# Altium schematic symbol library LSMD PCB.SCHLIB: 112 symbols (part 1 of 2)
Pins are listed as number, name and electrical type; pins without a type are passive.

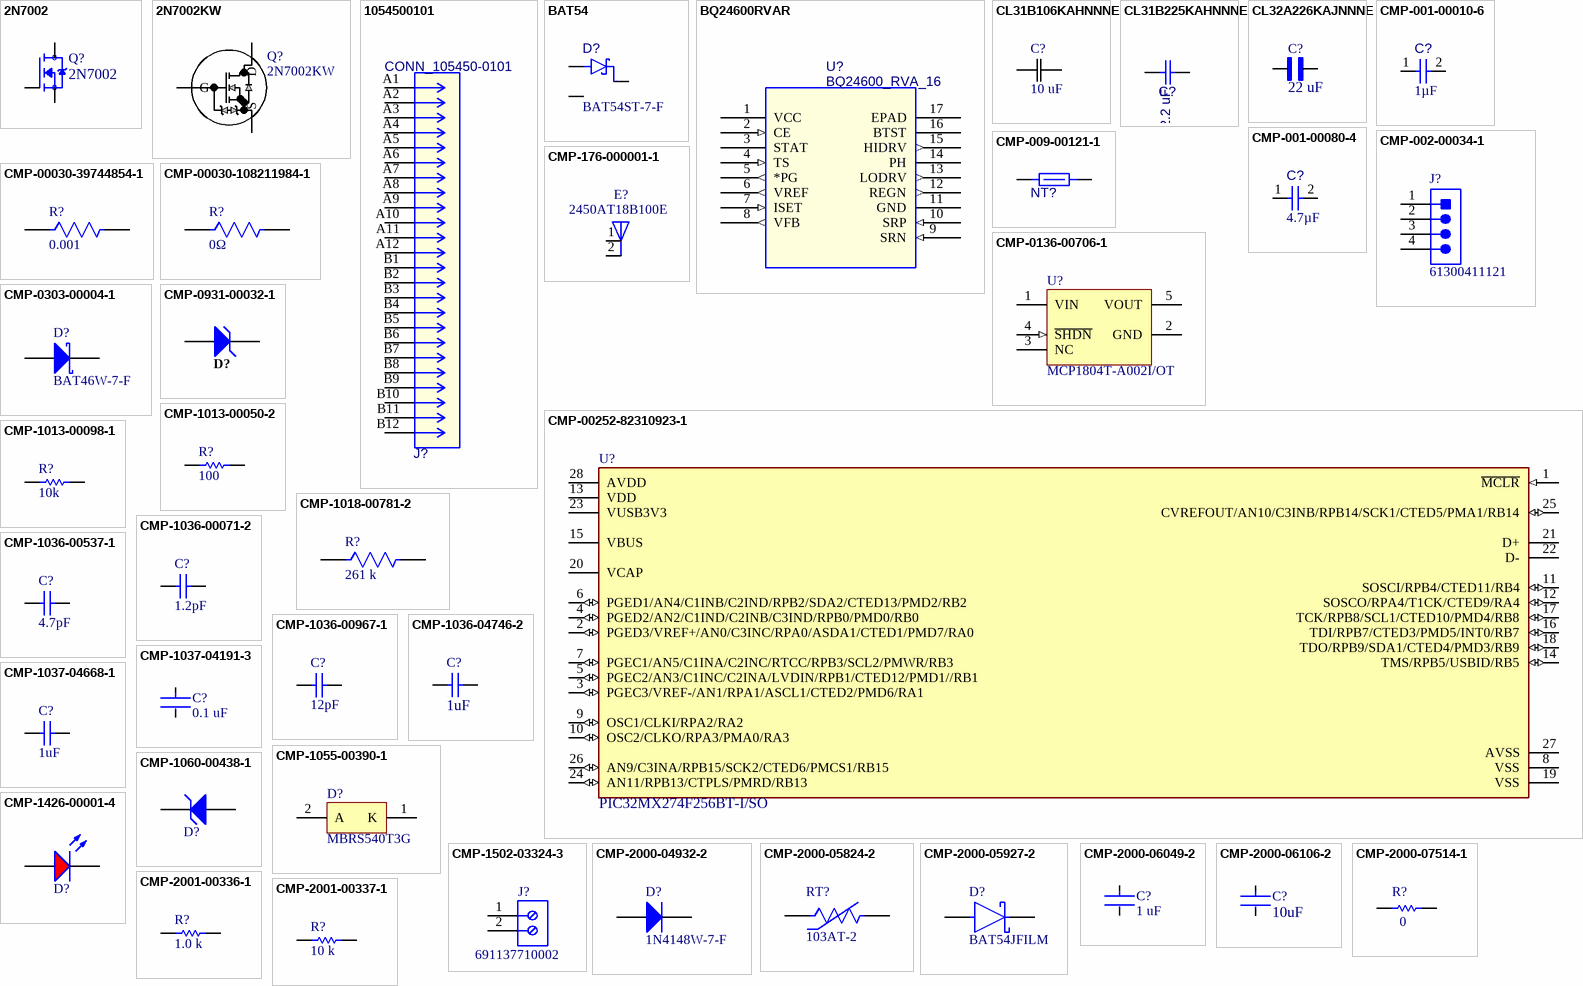
[diagram p0: symbols 2N7002 to CMP-2001-00337-1]

## 2N7002
designator Q?
Mosfet Array 2 N-Channel (Dual) 60V 300mA 500mW Surface Mount PG-SOT363-6; MF: onsemi; SnapEDA_Link: https://www.snapeda.com/parts/2N7002/Onsemi/view-part/?ref=snap; Package: SOT-23-3 ON Semiconductor; Value: *; MP: 2N7002; Check_prices: https://www.snapeda.com/parts/2N7002/Onsemi/view-part/?ref=eda; Supplier 1: Avnet; Supplier Part Number 1: 2N7002
footprint SOT95P240X111-3N
pins: 1 G, 2 S, 3 D

## 2N7002KW
designator Q?
Description; Manufacturer_Name: onsemi; Copyright: Copyright (C) 2025 Ultra Librarian. All rights reserved.; Manufacturer_Part_Number: 2N7002KW; Supplier 1: Avnet; Supplier Part Number 1: 2N7002KW
footprint SC-70_419AB-01_OSI
pins: 1 G, 2 S, 3 D

## 1054500101
designator J?, comment CONN_105450-0101
Universal Serial Bus (USB) Shielded I/O Receptacle, Type C, Right-Angle, Top Mount, Surface Mount, 0.80mm Solder Tabs, Gold (Au) Flash over 0.76m Palladium Nickel Plating; Manufacturer_Name: Molex Connector Corporation; Manufacturer_Part_Number: 1054500101; Part Reference: J3; PCB Footprint: CONN_105450-0101_MOL; Copyright: Copyright (C) 2025 Ultra Librarian. All rights reserved.; Datasheet: https://www.molex.com/en-us/products/part-detail-pdf/1054500101?display=pdf; Value: CONN_105450-0101; Part Number: 1054500101; Manufacturer Part Number: 1054500101; Manufacturer Name: Molex Connector Corporation; Supplier 1: Avnet; Supplier Part Number 1: 1054500101
footprint CONN_1054500101_MOL
pins: A1, A2, A3, A4, A5, A6, A7, A8, A9, A10, A11, A12, B1, B2, B3, B4, B5, B6, B7, B8, B9, B10, B11, B12

## BAT54
designator D?  Supplier Part Number 1: BAT54ST-7-F
Schottky, SOT-23, 30V, 0.2A, 150C; Part Reference: D1; PCB Footprint: SOT95P240X120-3N; MF: Diotec; MP: BAT54; OriginalSymbolOrigin: (-10000,20000); Value: BAT54; SnapEDA_Link: https://www.snapeda.com/parts/BAT54/Diotec/view-part/?ref=snap; Package: SOT-23 Diotec; Check_prices: https://www.snapeda.com/parts/BAT54/Diotec/view-part/?ref=eda; Part Number: BAT54; Manufacturer Part Number: BAT54; Manufacturer Name: Diotec; Supplier 1: Avnet
footprint SOT523_DIO
pins: 1, 2 NC, 3

## BQ24600RVAR
designator U?, comment BQ24600_RVA_16
Standalone 1-6 cell Buck battery charge controller 16-VQFN -40 to 85; Manufacturer_Part_Number: BQ24600RVAR; Manufacturer_Name: Texas Instruments; Part Reference: U3; PCB Footprint: RVA16_2P14X2P14; Datasheet: https://www.ti.com/lit/gpn/bq24600; Copyright: Copyright (C) 2025 Ultra Librarian. All rights reserved.; Value: BQ24600_RVA_16; Manufacturer Name: Texas Instruments; Manufacturer Part Number: BQ24600RVAR; Part Number: BQ24600RVAR; Supplier 1: DigiKey; Supplier Part Number 1: 296-47740-1-ND
footprint RVA16_2P14X2P14
pins: 1 VCC (power), 2 CE (in), 3 STAT, 4 TS (in), 5 *PG (out), 6 VREF (out), 7 ISET (in), 8 VFB (out), 9 SRN (in), 10 SRP (in), 11 GND (power), 12 REGN (out), 13 LODRV (out), 14 PH, 15 HIDRV (out), 16 BTST, 17 EPAD (power)

## CL31B106KAHNNNE
designator C?, comment 10 uF
Description; Manufacturer_Name: Samsung; Manufacturer_Part_Number: CL31B106KAHNNNE; Copyright: Copyright (C) 2025 Ultra Librarian. All rights reserved.; Supplier 1: Avnet; Supplier Part Number 1: CL31B106KAHNNNE
footprint CAP_CL31_SAM
pins: 1, 2

## CL31B225KAHNNNE
designator C?, comment 2.2 uF
Manufacturer_Name: Samsung; Manufacturer_Part_Number: CL31B225KAHNNNE; Part Reference: C6; PCB Footprint: CAP_CL31_SAM; Copyright: Copyright (C) 2025 Ultra Librarian. All rights reserved.; Value: 2.2 uF; Part Number: CL31B225KAHNNNE; Manufacturer Part Number: CL31B225KAHNNNE; Manufacturer Name: Samsung; Supplier 1: Avnet; Supplier Part Number 1: CL31B225KAHNNNE
footprint CAP_CL31_SAM
footprint CAPC3216X180N
pins: 1, 2

## CL32A226KAJNNNE
designator C?, comment 22 uF
Capacitor: ceramic; MLCC; 22uF; 25V; X5R; Â±10%; SMD; 1210; -55Ã·85Â°C; MF: Samsung Electro-Mechanics; MP: CL32A226KAJNNNE; SnapEDA_Link: https://www.snapeda.com/parts/CL32A226KAJNNNE/Samsung/view-part/?ref=snap; Package: SMD-2 Samsung; Value: *; Check_prices: https://www.snapeda.com/parts/CL32A226KAJNNNE/Samsung/view-part/?ref=eda; Supplier 1: Avnet; Supplier Part Number 1: CL32A226KAJNNNE
footprint CAP_CL32_SAM
pins: 1, 2

## CMP-001-00010-6
designator C?, comment value 1µF  (hidden comment: Capacitor 1 uF +/- 10% 25 V 0805)
Chip Capacitor, 1 uF, +/-10%, 25 V, 0805 (2012 Metric); Manufacturer: Yageo Group; Manufacturer Part Number: CC0805KKX7R8BB105; Manufacturer: Kyocera / AVX; Manufacturer Part Number: 08053C105KAZ2A; Manufacturer: Murata; Manufacturer Part Number: GRM21BR71E105KA99L; Voltage Rating: 25V; Capacitor Type: Ceramic; Tolerance: 10%; Pins: 2; Max Operating Temperature: 125°C; Min Operating Temperature: -55°C; Mounting Technology: SM; RoHS Compliant: True; Case/Package: 0805; Component Type: Capacitors
footprint CAPC2013X145X50ML20T25 (Chip Capacitor, 2-Leads, Body 2.2x1.45mm, IPC Low Density)
footprint CAPC2013X145X50LL20T25 (Chip Capacitor, 2-Leads, Body 2.2x1.45mm, IPC High Density)
footprint CAPC2013X145X50NL20T25 (Chip Capacitor, 2-Leads, Body 2.2x1.45mm, IPC Medium Density)
pins: 1, 2

## CMP-001-00080-4
designator C?, comment value 4.7µF  (hidden comment: Capacitor 4.7µF +/-40% 25V 0805)
Chip Capacitor, 4.7µF +/-40%, 25V, 0805, Thickness 1.45 mm; Manufacturer: KYOCERA AVX; Manufacturer Part Number: 08053D475MAT2A; Manufacturer: KEMET; Manufacturer Part Number: C0805C475M3PAC; Manufacturer Part Number: 08053C475KAT2A; Tolerance: 20%; Mounting Technology: SMT; Max Operating Temperature: 85°C; Min Operating Temperature: -55°C; Voltage Rating: 25V; Case/Package: 0805; Pins: 2; Component Type: Capacitors
footprint CAPC0805(2012)145_L (Chip Capacitor, Body 2.0x1.2mm, Height 1.45mm, IPC High Density)
pins: 1, 2

## CMP-002-00034-1
designator J?, comment 61300411121
Male Header, Pitch 2.5 mm, 1 x 4 Position, Height 6.1 mm, Tail Length 3.4 mm, -25 to 85 degC, RoHS, Bulk; Manufacturer: JST; Manufacturer Part Number: S4B-XH-A(LF)(SN); RoHS Compliant: Unknown; Manufacturer URL: http://www.jst.com/home2.html; Connector Type: Header; Datasheet URL: http://www.jst-mfg.com/product/pdf/eng/eXH.pdf; Gender: Male; Package Reference: S4B-XH-A(LF)(SN); Datasheet Version: May-16; Case/Package: S4B-XH-A(LF)(SN); Mounting Technology: TH; Max Operating Temperature: 85°C; Min Operating Temperature: -25°C; Package Description: XH Series Disconnectable Crimp Style Connector, Pitch 2.5 mm, 1 x 4 Position, Height 6.1 mm, Tail Length 3.4 mm; Component Type: Connectors
footprint JST-S4B-XH-A(LF)(SN)_V (Header, 4-Leads, Body 12.4x11.5mm, Pitch 2.5mm)
pins: 1, 2, 3, 4

## CMP-009-00121-1
designator NT?, comment Net Tie 12x8mil  (value not drawn)  (net tie, no BOM)
Max Operating Temperature: 155°C; Min Operating Temperature: -55°C; Pins: 2; Component Type: Resistors
footprint SHORT06-FP
pins: 1, 2

## CMP-00030-39744854-1
designator R?, comment 0.001
WSL20101L000FEA18 Res Metal Strip 2010 0.001 Ohm 1% 1W ±275ppm/C Sulfur Resistant Pad SMD Automotive T/R; NexarPartId: 39744854; Resistance: 1mΩ; Temperature Coefficient: 275ppm/°C; Power Rating: 500mW; Max Power Dissipation: 1W; Features: Moisture Resistant; Number of Pins: 2010; Mount: Surface Mount; Radiation Hardening: No; Packaging: Cut Tape; REACH SVHC: Unknown; Tolerance: 1%; Depth: 2.54mm; Termination: SMD/SMT; Schedule B: 8533210045, 8533210045; Min Operating Temperature: -65°C; Contact Plating: Tin; Length: 5.08mm; Lead Free: Lead Free; Max Operating Temperature: 170°C; RoHS: Compliant; Case Code (Imperial): 2010; Width: 2.54mm; Case Code (Metric): 5025; Composition: Metal Element, Metal Strip; Height: 635µm; Number of Terminations: 2; Case/Package: 2010
footprint FP-WSL2010-1_47-MFG (Res Metal Strip 2010 0.002 Ohm 1% 1/2W ±275ppm/°C Molded SMD SMD Embossed Plastic T/R)
footprint FP-WSL2010-1_47-IPC_A (Res Metal Strip 2010 0.002 Ohm 1% 1/2W ±275ppm/°C Molded SMD SMD Embossed Plastic T/R)
footprint FP-WSL2010-1_47-IPC_B (Res Metal Strip 2010 0.002 Ohm 1% 1/2W ±275ppm/°C Molded SMD SMD Embossed Plastic T/R)
footprint FP-WSL2010-1_47-IPC_C (Res Metal Strip 2010 0.002 Ohm 1% 1/2W ±275ppm/°C Molded SMD SMD Embossed Plastic T/R)
pins: 1, 2

## CMP-00030-108211984-1
designator R?, comment 0Ω
RCC08050000Z0EA Res Thick Film 0805 0 Ohm Conformal Coated Pad SMD Automotive AEC-Q200 T/R; NexarPartId: 108211984; Voltage Rating: 200V; Power Rating: 250mW; Resistance: 0Ω; Composition: Thick Film; Max Operating Temperature: 155°C; Case/Package: 0805; Height: 500µm; Min Operating Temperature: -55°C
footprint FP-RCC0805-e3-MFG (Res Thick Film 0805 0 Ohm Conformal Coated Pad SMD Automotive AEC-Q200 T/R)
footprint FP-RCC0805-e3-IPC_A (Res Thick Film 0805 0 Ohm Conformal Coated Pad SMD Automotive AEC-Q200 T/R)
footprint FP-RCC0805-e3-IPC_B (Res Thick Film 0805 0 Ohm Conformal Coated Pad SMD Automotive AEC-Q200 T/R)
footprint FP-RCC0805-e3-IPC_C (Res Thick Film 0805 0 Ohm Conformal Coated Pad SMD Automotive AEC-Q200 T/R)
pins: 1, 2

## CMP-0136-00706-1
designator U?, comment MCP1804T-A002I/OT
150 mA, 28V LDO Regulator With Shutdown, 5-Pin SOT-23, Industrial Temperature, Tape and Reel; Code_IPC: SOT23-5; PackageVersion: revBB, Aug-2009; PackageDescription: 5-Lead Plastic Small Outline Transistor (OT) [SOT-23]; DatasheetVersion: revB, Nov-2009; PackageReference: SOT-23-OT5
footprint SOT-23-OT5_N (SOT23, 5-Leads, Body 2.9x1.6mm, Pitch 0.95mm, Lead Span 2.7mm, IPC Medium Density)
footprint SOT-23-OT5_M (SOT23, 5-Leads, Body 2.9x1.6mm, Pitch 0.95mm, Lead Span 2.7mm, IPC Low Density)
footprint SOT-23-OT5_L (SOT23, 5-Leads, Body 2.9x1.6mm, Pitch 0.95mm, Lead Span 2.7mm, IPC High Density)
pins: 1 VIN (power), 2 GND (power), 3 NC, 4 ~{SHDN} (in), 5 VOUT (power)

## CMP-176-000001-1
designator E?, comment 2450AT18B100E
2.4GHz - Chip RF Antenna 2.4GHz ~ 2.5GHz 0.5dBi Solder Surface Mount; MF: Johanson Technology; Source: 2450AT18B100E.SchLib; Price: None; Package: None; Component Type: Standard; MP: 2450AT18B100E; Check_prices: https://www.snapeda.com/parts/2450AT18B100E/Johanson+Technology+Inc./view-part/?ref=eda; Design Item ID: 2450AT18B100E; SnapEDA_Link: https://www.snapeda.com/parts/2450AT18B100E/Johanson+Technology+Inc./view-part/?ref=snap; Availability: In Stock; Pin Count: 2; Value: *; Purchase-URL: https://pricing.snapeda.com/search/part/2450AT18B100E/?ref=eda
footprint XDCR_2450AT18B100E
pins: 1 FEED, 2 NC

## CMP-00252-82310923-1
designator U?, comment PIC32MX274F256BT-I/SO
PIC32MX274F256BT-I/SO MCU 32-bit MIPS32 M4K RISC 256KB Flash 2.5V/3.3V 28-Pin SOIC W T/R; NexarPartId: 82310923; Number of Timers/Counters: 5; Number of SPI Channels: 2; Interface: I2C, I2S, IrDA, LIN, Parallel, SPI, UART, USB; Number of A/D Converters: 1; Max Supply Voltage: 3.6V; Number of I/Os: 17; Frequency: 72MHz; Data Bus Width: 32b; Max Junction Temperature (Tj): 125°C; RAM Size: 64kB; Number of ADC Channels: 9; Min Supply Voltage: 2.5V; Schedule B: 8542310000, 8542310000; Min Operating Temperature: -40°C; RoHS: Non-Compliant; Number of USB Channels: 1; Number of PWM Channels: 5; Height: 2.65mm; Max Operating Temperature: 85°C; Number of UART Channels: 2; Number of I2C Channels: 2; Memory Size: 256kB; Memory Type: FLASH; Ambient Temperature Range High: 85°C; Lifecycle Status: Production
footprint FP-C04-052-MFG (MCU 32-bit MIPS32 M4K RISC 256KB Flash 2.5V/3.3V 28-Pin SOIC W T/R)
footprint FP-C04-052-IPC_A (MCU 32-bit MIPS32 M4K RISC 256KB Flash 2.5V/3.3V 28-Pin SOIC W T/R)
footprint FP-C04-052-IPC_B (MCU 32-bit MIPS32 M4K RISC 256KB Flash 2.5V/3.3V 28-Pin SOIC W T/R)
footprint FP-C04-052-IPC_C (MCU 32-bit MIPS32 M4K RISC 256KB Flash 2.5V/3.3V 28-Pin SOIC W T/R)
pins: 1 ~{MCLR} (in), 2 PGED3/VREF+/AN0/C3INC/RPA0/ASDA1/CTED1/PMD7/RA0 (io), 3 PGEC3/VREF-/AN1/RPA1/ASCL1/CTED2/PMD6/RA1 (io), 4 PGED2/AN2/C1IND/C2INB/C3IND/RPB0/PMD0/RB0 (io), 5 PGEC2/AN3/C1INC/C2INA/LVDIN/RPB1/CTED12/PMD1//RB1 (io), 6 PGED1/AN4/C1INB/C2IND/RPB2/SDA2/CTED13/PMD2/RB2 (io), 7 PGEC1/AN5/C1INA/C2INC/RTCC/RPB3/SCL2/PMWR/RB3 (io), 8 VSS (power), 9 OSC1/CLKI/RPA2/RA2 (io), 10 OSC2/CLKO/RPA3/PMA0/RA3 (io), 11 SOSCI/RPB4/CTED11/RB4 (io), 12 SOSCO/RPA4/T1CK/CTED9/RA4 (io), 13 VDD (power), 14 TMS/RPB5/USBID/RB5 (io), 15 VBUS (power), 16 TDI/RPB7/CTED3/PMD5/INT0/RB7 (io), 17 TCK/RPB8/SCL1/CTED10/PMD4/RB8 (io), 18 TDO/RPB9/SDA1/CTED4/PMD3/RB9 (io), 19 VSS (power), 20 VCAP (power), 21 D+, 22 D-, 23 VUSB3V3 (power), 24 AN11/RPB13/CTPLS/PMRD/RB13 (io), 25 CVREFOUT/AN10/C3INB/RPB14/SCK1/CTED5/PMA1/RB14 (io), 26 AN9/C3INA/RPB15/SCK2/CTED6/PMCS1/RB15 (io), 27 AVSS (power), 28 AVDD (power)

## CMP-0303-00004-1
designator D?, comment BAT46W-7-F
Surface Mount Schottky Barrier Diode, 100 V, -55 to 125 degC, 2-Pin SOD123, RoHS, Tape and Reel; Manufacturer: Diodes Inc; IR@1.5 V: 0.3 uA Max.; V(BR)R: 100 V Min.; VF@10 mA: 0.45 V Max.; CT@1 V: 12 pF Typ.; PartNumber: BAT46W-7-F; ComponentLink1URL: http://www.diodes.com/; ComponentLink3URL: http://diodes.com/datasheets/ds30044.pdf; PackageDescription: 2-Pin SMD, Body 2.7 x 1.55 mm, Height 1.45 mm; ComponentLink2Description: Datasheet; ComponentLink3Description: Package Specification; Mounting Technology: Surface Mount; ComponentLink1Description: Manufacturer URL; RoHS: TRUE; Operating Temperature: -55 to 125 degC; Packing: Tape and Reel; ComponentLink2URL: http://diodes.com/datasheets/ds30044.pdf; DatasheetVersion: Rev. 16-2
footprint DIOD-SOD-123-2_V (SOD-123, 2-Leads, Body 2.85x1.7mm (max), Pitch 3.7mm)
pins: 1 A, 2 K

## CMP-0931-00032-1
designator D?, comment MMSZ5246B-E3-08  (value not drawn)
Small Signal Zener Diode, 16 V +/- 5%, -55 to 155 degC, 2-Pin SOD-123, RoHS, Tape and Reel; Manufacturer: Vishay Semiconductor; Test Current (IZT1) (mA): 7.8; Zener Impedance (IZT1) (Max.) (Ohm): 17; Int. Construction: Single; Tolerance: +/- 5%; Power Dissipation (mW): 500; Zener Voltage (NOM.) (V): 16; ComponentLink1URL: http://www.vishay.com/; PackageReference: SOD-123-2; PartNumber: MMSZ5246B-E3-08; ComponentLink2Description: Datasheet; Operating Temperature: -55 to 150 degC; PackageDescription: 2-Pin SMD, Body 2.7 x 1.55 mm, Height 1.35 mm; ComponentLink2URL: http://www.vishay.com/docs/85774/mmsz5225.pdf; DatasheetVersion: Rev. 1.9; RoHS: TRUE; Packing: Tape and Reel; ComponentLink1Description: Manufacturer URL; Mounting Technology: Surface Mount; PackageVersion: Rev. 1.9; ComponentLink3URL: http://www.vishay.com/docs/85774/mmsz5225.pdf; ComponentLink3Description: Package Specification
footprint VISH-SOD-123-2_V (SMD, 2-Leads, Body 2.7x1.55mm, Height 1.35mm)
pins: 1 A, 2 K

## CMP-1013-00050-2
designator R?, comment 100
Part Number: ERJ-6GEYJ101V; Manufacturer: Panasonic
footprint RESC2013X70X40ML20T20 (Chip Resistor, 2-Leads, Body 2.00x1.25mm, IPC Low Density)
footprint RESC2013X70X40NL20T20 (Chip Resistor, 2-Leads, Body 2.00x1.25mm, IPC Medium Density)
footprint RESC2013X70X40LL20T20 (Chip Resistor, 2-Leads, Body 2.00x1.25mm, IPC High Density)
pins: 1, 2
1 alternate drawing of the same symbol

## CMP-1013-00098-1
designator R?, comment 10k
10K 0.125W 5% 0805 (2012 Metric)  SMD; Case-EIA: 0805; Case-Metric: 2012; Value: 10000.00 Ohm; Power: 0.125 W; Technology: SMT; Tolerance: 5 %
footprint RESC0805(2012)_L (Chip Resistor, Body 2.0x1.3mm, IPC High Density)
footprint RESC0805(2012)_M (Chip Resistor, Body 2.0x1.3mm, IPC Low Density)
footprint RESC0805(2012)_N (Chip Resistor, Body 2.0x1.3mm, IPC Medium Density)
pins: 1, 2
1 alternate drawing of the same symbol

## CMP-1018-00781-2
designator R?, comment 261 k
RES Thick Film, 261kΩ, 1%, 1W, 100ppm/°C, 2512; Voltage Rating (DC): 500V; Resistance: 261kR; Case Code (Metric): 6432; Max Power Dissipation: 1W; Number of Terminations: 2; Tolerance: 1%; Case Code (Imperial): 2512; Temperature Coefficient: 100ppm/°C; Width: 0.124inch; Packaging: Tape and Reel; Features: Automotive AEC-Q200; Composition: Thick Film; Mount: Surface Mount; Lead Free: Lead Free; Height: 0.028inch; Case/Package: 2512; Package Quantity: 2000; Power Rating: 1W; Length: 0.248inch
footprint FP-CRCW2512-e3-IPC_B
footprint FP-CRCW2512-e3-IPC_C
footprint FP-CRCW2512-e3-IPC_A
footprint FP-CRCW2512-e3-MFG
pins: 1, 2

## CMP-1036-00071-2
designator C?, comment 1.2pF
CAP 1pF 100V ±0.1pF 0805 (2012 Metric) Thickness 1.45mm SMD; Case-Metric: 2012; Tolerance: Â±0.1pF; Case-EIA: 0805; Technology: SMT; Max Thickness: 1.45 mm; Value: 1pF; Rated Voltage: 100 V
footprint CAPC0805(2012)145_M (Chip Capacitor, Body 2.0x1.2mm, Height 1.45mm, IPC Low Density)
footprint CAPC0805(2012)145_N (Chip Capacitor, Body 2.0x1.2mm, Height 1.45mm, IPC Medium Density)
footprint CAPC0805(2012)145_L (Chip Capacitor, Body 2.0x1.2mm, Height 1.45mm, IPC High Density)
pins: 1, 2
1 alternate drawing of the same symbol

## CMP-1036-00537-1
designator C?, comment 4.7pF
CAP 4.7pF 25V ±0.1pF 0805 (2012 Metric) Thickness 0.75mm SMD; Tolerance: Â±0.1pF; Case-EIA: 0805; Case-Metric: 2012; Technology: SMT; Rated Voltage: 25 V; Max Thickness: 0.75 mm; Value: 4.7pF
footprint CAPC0805(2012)75_N (Chip Capacitor, Body 2.0x1.2mm, Height 0.75mm, IPC Medium Density)
footprint CAPC0805(2012)75_L (Chip Capacitor, Body 2.0x1.2mm, Height 0.75mm, IPC High Density)
footprint CAPC0805(2012)75_M (Chip Capacitor, Body 2.0x1.2mm, Height 0.75mm, IPC Low Density)
pins: 1, 2
1 alternate drawing of the same symbol

## CMP-1036-00967-1
designator C?, comment 12pF
CAP 12pF 100V ±10% 0805 (2012 Metric) Thickness 1.45mm SMD; Case-Metric: 2012; Case-EIA: 0805; Tolerance: Â±10%; Value: 12pF; Rated Voltage: 100 V; Technology: SMT; Max Thickness: 1.45 mm
footprint CAPC0805(2012)145_M (Chip Capacitor, Body 2.0x1.2mm, Height 1.45mm, IPC Low Density)
footprint CAPC0805(2012)145_L (Chip Capacitor, Body 2.0x1.2mm, Height 1.45mm, IPC High Density)
footprint CAPC0805(2012)145_N (Chip Capacitor, Body 2.0x1.2mm, Height 1.45mm, IPC Medium Density)
pins: 1, 2
1 alternate drawing of the same symbol

## CMP-1036-04746-2
designator C?, comment 1uF
Manufacturer: Kemet; Part Number: C0805C105K4PACTU
footprint CAPC2013X145X50LL20T25 (Chip Capacitor, 2-Leads, Body 2.00x1.25mm, IPC High Density)
footprint CAPC2013X145X50NL20T25 (Chip Capacitor, 2-Leads, Body 2.00x1.25mm, IPC Medium Density)
footprint CAPC2013X145X50ML20T25 (Chip Capacitor, 2-Leads, Body 2.00x1.25mm, IPC Low Density)
pins: 1, 2
1 alternate drawing of the same symbol

## CMP-1037-04191-3
designator C?, comment 0.1 uF
CAP CER 0.1UF 25V X7R 1206; Manufacturer Part Number: CC1206KRX7R8BB104; Manufacturer: Yageo; Value: 100 nF; Material: Ceramic; Tolerance: 0.1; Automotive Grade: NA; Temperature Coefficient: 15%; Category: Cap; Voltage Rating: 25 V; Temperature Range Low: -55°C; Lead Free: Yes; Mouser Description: Multilayer Ceramic Capacitors MLCC - SMD/SMT 100nF 25V X7R 10%; Octopart: https://octopart.com/cc1206krx7r8bb104-yageo-42334534; Device Class L1: Passive Components; Capacitance: 100 nF; RoHS: TRUE; Automotive: No; Package: CC1206-1.25; Device Class L2: Capacitors; Footprint Url: http://www.yageo.com/exep/pages/download/literatures/UPY-C_GEN_24.pdf; Height: 1.45mm; Temperature: -55°C to +125°C; Temperature Range High: +125°C; ComponentLink2URL: http://www.yageo.com/documents/recent/UPY-NP0X7R_HV_1KV-to-3KV_11.pdf; Temperature Characteristic: X7R; Device Class L3: Ceramic Capacitors; Digikey Description: CAP CER 0.1UF 25V X7R 1206; ComponentLink2Description: Datasheet
footprint FP-CC1206-1_25-MFG
footprint FP-CC1206-1_25-IPC_C
footprint FP-CC1206-1_25-IPC_B
footprint FP-CC1206-1_25-IPC_A
pins: 1, 2

## CMP-1037-04668-1
designator C?, comment 1uF
CAP 1uF 6.3V ±10% 1206 (3216 Metric) Thickness 1.45mm SMD; Case-Metric: 3216; Case-EIA: 1206; Tolerance: Â±10%; Technology: SMT; Value: 1uF; Max Thickness: 1.45 mm; Rated Voltage: 6.3 V
footprint CAPC1206(3216)150_M (Chip Capacitor, Body 3.2x1.6mm, Height 1.5mm, IPC Low Density)
footprint CAPC1206(3216)150_N (Chip Capacitor, Body 3.2x1.6mm, Height 1.5mm, IPC Medium Density)
footprint CAPC1206(3216)150_L (Chip Capacitor, Body 3.2x1.6mm, Height 1.5mm, IPC High Density)
pins: 1, 2
1 alternate drawing of the same symbol

## CMP-1055-00390-1
designator D?, comment MBRS540T3G
Schottky Power Rectifier, 2-Pin SMC, Pb-Free, Tape and Reel; Manufacturer: On Semiconductor; Configuration: Single; IFSM Max (A): 190; ComponentLink1URL: http://www.onsemi.com/; ComponentLink3URL: http://www.onsemi.com/pub_link/Collateral/403-03.PDF; ComponentLink1Description: Manufacturer URL; PackageVersion: Rev. E, 08/2005; Packing: Tape and Reel; ComponentLink2URL: http://www.onsemi.cn/pub_link/Collateral/MBRS540T3-D.PDF; RoHS: TRUE; DatasheetVersion: Rev. 8; Mounting Technology: Surface Mount; ComponentLink3Description: Package Specification; ComponentLink2Description: Datasheet; PartNumber: MBRS540T3G; PackageDescription: 2-Pin Small Molded Package, J-Bend Lead, Body 5.845 x 6.855 mm; PackageReference: SMC-2-403-03
footprint ONSC-SMC-2-403-03_V (Molded, 2-Leads, Body 6.86x5.84mm)
pins: 1 K, 2 A

## CMP-1060-00438-1
designator D?, comment MMSZ4697T1G  (value not drawn)
Zener Voltage Regulator, 500 mW, 2-Pin SOD-123, Pb-Free, Tape and Reel; Manufacturer: On Semiconductor; VZ Typ (V): 10; P Max (W): 0.5; ComponentLink3Description: Package Specification; ComponentLink3URL: http://www.onsemi.com/pub_link/Collateral/425-04.PDF; ComponentLink2Description: Datasheet; Packing: Tape and Reel; RoHS: Pb-Free; DatasheetVersion: Rev. 9; PackageVersion: Rev. G, 10/2009; ComponentLink2URL: http://www.onsemi.com/pub_link/Collateral/MMSZ4678T1-D.PDF; ComponentLink1URL: http://www.onsemi.com/; PackageReference: SOD-123-2-425-04; PackageDescription: 2-Pin SOD, Body 1.6 x 2.69 mm; PartNumber: MMSZ4697T1G; Mounting Technology: Surface Mount; ComponentLink1Description: Manufacturer URL
footprint ONSC-SOD-123-2-425-04_V (SOD, 2-Leads, Body 2.69x1.6mm)
pins: 1 K, 2 A

## CMP-1426-00001-4
designator D?, comment 150060RS75000  (value not drawn)
LED Low-Power Uni-Color Red 630nm 2V 2-Pin Chip 0603(1608Metric) T/R; Max Junction Temperature (Tj): 95°C; Dominant Wavelength: 625nm; Lens Style: Clear, Rectangular; Viewing Angle: 140°; Forward Current: 100mA; Max Reverse Voltage (DC): 5V; Luminous Intensity: 250mcd; Test Current: 20mA; Power Dissipation: 72mW; Max Operating Temperature: 85°C; Mount: Surface Mount; Height: 700µm; Packaging: Tape and Reel; REACH SVHC: Unknown; Case Code (Metric): 1608; Peak Wavelength: 630nm; Forward Voltage: 2V; Case/Package: 0603; Color: Red; RoHS: Compliant; Width: 800µm; Reverse Voltage: 5V; Min Operating Temperature: -40°C; Wavelength: 625nm; Case Code (Imperial): 0603; Length: 1.6mm
footprint WL-SMCW_0603_150060xx75000
pins: 1 K, 2 A

## CMP-1502-03324-3
designator J?, comment 691137710002
Terminal Block, 5MM Pitch, Horizontal, Pressure Clamp Glow Wire, Pcb, 2PINS, Gr; Current Rating: 16A; Number of Contacts: 2; Voltage Rating: 300V; Number of Pins: 2; Min Operating Temperature: -30°C; Lead Pitch: 5mm; Packaging: Box; Max Operating Temperature: 120°C; RoHS: Compliant; Number of Rows: 1; Height: 11.6mm; Contact Material: Nickel, Tin
footprint 691137710002
pins: 1, 2

## CMP-2000-04932-2
designator D?, comment 1N4148W-7-F
Fast Switching Diode, 100 V, 0.15 A, -65 to 150 degC, 2-Pin?SOD123, RoHS, Tape and Reel; Recovery Time: 4ns; Brand: DiodesIncorporated; Unit Weight: 0.000353oz; Max Surge Current: 2A; Peak Reverse Voltage: 100V; Ir - Reverse Current: 1uA; Vf - Forward Voltage: 1.25V; Configuration: Single; If - Forward Current: 0.15A; Product Category: Diodes-GeneralPurpose,Power,Switching; Operating Temperature Range: -65Cto+150C; Packaging: Reel; Manufacturer URL: http://www.diodes.com/; Maximum Operating Temperature: +150C; Height: 1.25mm; Minimum Operating Temperature: -65C; Product: SwitchingDiodes; Package URL: http://www.diodes.com/datasheets/ds18004.pdf; Type: SwitchingDiode; Package Reference: SOD123-2; Width: 1.7mm; Datasheet URL: http://www.farnell.com/datasheets/1915529.pdf; Datasheet Version: Rev. 24-2, 10/2013; Series: 1N4148; Factory Pack Quantity: 3000; Length: 2.85mm; RoHS: True; Manufacturer: DiodesIncorporated; Mounting Style: SMD/SMT; Package / Case: SOD-123
footprint DIOD-SOD123-2_V (SOD123, 2-Leads, Body 2.7x1.55mm, Height 1.45mm)
pins: 1 A, 2 K

## CMP-2000-05824-2
designator RT?, comment 103AT-2
Thermistor NTC 10KOhm 1% 2-Pin; Resistance: 10kR; Lead Pitch: 2.54mm; Height: 2.4mm; Max Operating Temperature: 110°C; Width: 3.7mm; RoHS Compliant: Yes; Min Operating Temperature: -50°C; Termination: Radial; Packaging: Bulk; Number of Pins: 2; Series: AT; Tolerance: 1%; Length: 17mm
footprint FP-103AT-2-MFG
pins: 1, 2

## CMP-2000-05927-2
designator D?, comment BAT54JFILM
DIODE SCHOTTKY 40V 300MA SOD323; Manufacturer: STMicroelectronics; Max Surge Forward Current: 1.25A; Value: 7pF; Max Junction Temp: +150°C; Peak Reverse Current: 1uA; Standoff Height: 0mm; ComponentLink2Description: Datasheet; Device Class L2: Diodes; Mouser Description: Schottky Diodes & Rectifiers 300mA 40 Volt; Forward Current: 300mA; Temperature Range Low: -40°C; Temperature Range High: +150°C; Digikey Description: DIODE SCHOTTKY 40V 300MA SOD323; Capacitance: 7pF; Ipc Land Pattern Name: SOD250128X117-2; Automotive: No; Manufacturer Part Number: BAT54JFILM; Device Class L1: Discrete Semiconductors; Lead Free: Yes; ComponentLink2URL: https://www.st.com/resource/en/datasheet/bat54.pdf; Package: SOD323; Temperature: -40°C to +150°C; Category: IC; Height: 1.17mm; Octopart: https://octopart.com/bat54jfilm-stmicroelectronics-326073; RoHS: TRUE; Device Class L3: Schottky Diodes; Max Repetitive Reverse Voltage: 40V
footprint FP-SOD323-MFG
footprint FP-SOD323-IPC_C
footprint FP-SOD323-IPC_B
footprint FP-SOD323-IPC_A
pins: 1 C, 2 A

## CMP-2000-06049-2
designator C?, comment 1 uF
Multilayer Ceramic Capacitors 1uF ±10% 100V X7R SMD 1206; Construction: Flat; Voltage Rating (DC): 100V; Tolerance: 10%; Package Quantity: 1; Lead Free: Lead Free; Termination: SMD/SMT; Mount: Surface Mount; Capacitance: 1uF; Case Code (Metric): 3216; REACH SVHC: No SVHC; Thickness: 0.051inch; Voltage Rating: 100V; Height: 1.6mm; Case Code (Imperial): 1206; Packaging: Tape and Reel; RoHS Compliant: Yes; Weight: 0.000571oz; Min Operating Temperature: -55°C; Case/Package: 1206; Width: 0.063inch; Length: 3.2mm; Max Operating Temperature: 125°C; Series: C; Dielectric: X7R; Voltage: 100V; Depth: 1.6mm; Resistor Type: Ceramic; Contact Plating: Tin
footprint FP-C3216-160-0_2-IPC_B
footprint FP-C3216-160-0_2-IPC_C
footprint FP-C3216-160-0_2-MFG
footprint FP-C3216-160-0_2-IPC_A
pins: 1, 2

## CMP-2000-06106-2
designator C?, comment 10uF
CAP CER 10UF 16V X7R 0805; Manufacturer Part Number: CL21B106KOQNNNE; Manufacturer: Samsung Electro-Mechanics America, Inc; Material: Ceramic; Tolerance: 10%; Temperature Coefficient: 15%; Digikey Description: CAP CER 10UF 16V X7R 0805; Lead Free: Yes; ComponentLink2URL: http://www.samsungsem.com/servlet/FileDownload?path=productsearch&sname=CL21B106KOQNNNE.pdf&oname=CL21B106KOQNNNE.pdf; ComponentLink2Description: Datasheet; Temperature Range Low: -55°C; RoHS: TRUE; Category: Cap; Temperature Characteristic: X7R; Automotive: No; Octopart: https://octopart.com/cl21b106koqnnne-samsung-19832289; Device Class L3: Ceramic Capacitors; Temperature Range High: +125°C; Height: 1.4mm; Device Class L2: Capacitors; Voltage Rating: 16V; Value: 10uF; Temperature: -55°C to +125°C; Device Class L1: Passive Components; Ipc Land Pattern Name: CAPC200125X125; Package: CL21B106KOQNNNE; Capacitance: 10uF
footprint FP-CL21B106KOQNNNE-MFG
footprint FP-CL21B106KOQNNNE-IPC_C
footprint FP-CL21B106KOQNNNE-IPC_B
footprint FP-CL21B106KOQNNNE-IPC_A
pins: 1, 2

## CMP-2000-07514-1
designator R?, comment 0
Chip Resistor, 0 Ohm, 0.125 W, -55 to 125 degC, 0805 (2012 Metric), RoHS, Tape and Reel; Manufacturer: TE Connectivity; Power Rating: 125mW; Voltage Rating: 150V; Tolerance: 0%; Case\/Package: 0805; Number of Resistors: 1; Resistance: 0mOhm; Datasheet URL: www.te.com/commerce/DocumentDelivery/DDEController?Action=showdoc&DocId=Customer+Drawing%7F1623401%7FBA%7Fpdf%7FEnglish%7FENG_CD_1623401_BA.pdf%7F1623401-1; Composition: ThickFilm; Max Operating Temperature: 125degC; Min Operating Temperature: -55degC; ELV: Compliant; Case Code (Metric): 2012; Number of Terminations: 2; Weight: 0.000194oz; Length: 2mm; Mount: SurfaceMount; Packaging: TapeandReel; Case Code (Imperial): 0805; RoHSCompliant: true; Width: 1.25mm; Radiation Hardening: No; Termination: Solder; Manufacturer URL: http://www.te.com/; Package Description: 2-Pin Surface Mount Device, Body 2 x 1.25 mm; Mounting Technology: SurfaceMount; Height: 0.55mm; Package Quantity: 5000; Package Reference: RESC2013X65X40L15T20; Datasheet Version: Rev. BA, 12/2009; Depth: 1.25mm
footprint RESC2013X65X40LL15T20 (Chip Resistor, 2-Leads, Body 2.00x1.30mm, IPC High Density)
footprint RESC2013X65X40ML15T20 (Chip Resistor, 2-Leads, Body 2.00x1.30mm, IPC Low Density)
footprint RESC2013X65X40NL15T20 (Chip Resistor, 2-Leads, Body 2.00x1.30mm, IPC Medium Density)
pins: 1, 2

## CMP-2001-00336-1
designator R?, comment 1.0 k
Manufacturer: Panasonic; Part Number: ERJ-6GEYJ102V
footprint RESC2013X70X40ML20T20 (Chip Resistor, 2-Leads, Body 2.00x1.25mm, IPC Low Density)
footprint RESC2013X70X40LL20T20 (Chip Resistor, 2-Leads, Body 2.00x1.25mm, IPC High Density)
footprint RESC2013X70X40NL20T20 (Chip Resistor, 2-Leads, Body 2.00x1.25mm, IPC Medium Density)
pins: 1, 2
1 alternate drawing of the same symbol

## CMP-2001-00337-1
designator R?, comment 10 k
Part Number: ERJ-6GEYJ103V; Manufacturer: Panasonic
footprint RESC2013X70X40LL20T20 (Chip Resistor, 2-Leads, Body 2.00x1.25mm, IPC High Density)
footprint RESC2013X70X40NL20T20 (Chip Resistor, 2-Leads, Body 2.00x1.25mm, IPC Medium Density)
footprint RESC2013X70X40ML20T20 (Chip Resistor, 2-Leads, Body 2.00x1.25mm, IPC Low Density)
pins: 1, 2
1 alternate drawing of the same symbol

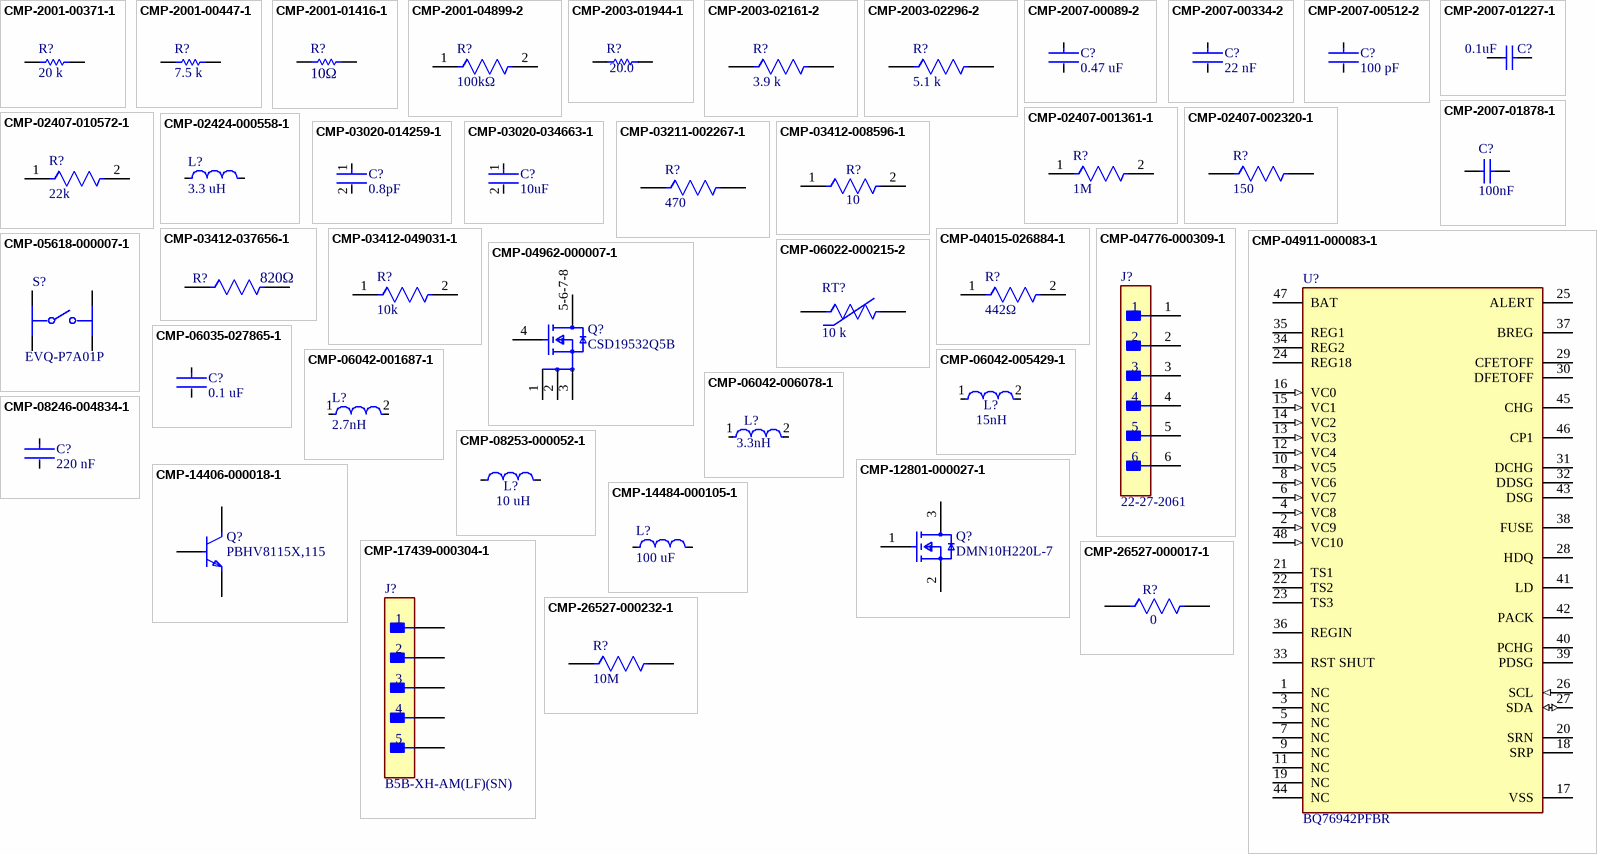
[diagram p1: symbols CMP-2001-00371-1 to CMP-26527-000232-1]

## CMP-2001-00371-1
designator R?, comment 20 k
Manufacturer: Panasonic; Part Number: ERJ-6GEYJ203V
footprint RESC2013X70X40NL20T20 (Chip Resistor, 2-Leads, Body 2.00x1.25mm, IPC Medium Density)
footprint RESC2013X70X40ML20T20 (Chip Resistor, 2-Leads, Body 2.00x1.25mm, IPC Low Density)
footprint RESC2013X70X40LL20T20 (Chip Resistor, 2-Leads, Body 2.00x1.25mm, IPC High Density)
pins: 1, 2
1 alternate drawing of the same symbol

## CMP-2001-00447-1
designator R?, comment 7.5 k
Part Number: ERJ-6GEYJ752V; Manufacturer: Panasonic
footprint RESC2013X70X40LL20T20 (Chip Resistor, 2-Leads, Body 2.00x1.25mm, IPC High Density)
footprint RESC2013X70X40NL20T20 (Chip Resistor, 2-Leads, Body 2.00x1.25mm, IPC Medium Density)
footprint RESC2013X70X40ML20T20 (Chip Resistor, 2-Leads, Body 2.00x1.25mm, IPC Low Density)
pins: 1, 2
1 alternate drawing of the same symbol

## CMP-2001-01416-1
designator R?, comment 10Ω
Manufacturer: Yageo; Part Number: RC0805JR-1310RL
footprint RESC2013X60X35NL10T20 (Chip Resistor, 2-Leads, Body 2.00x1.25mm, IPC Medium Density)
footprint RESC2013X60X35LL10T20 (Chip Resistor, 2-Leads, Body 2.00x1.25mm, IPC High Density)
footprint RESC2013X60X35ML10T20 (Chip Resistor, 2-Leads, Body 2.00x1.25mm, IPC Low Density)
pins: 1, 2
1 alternate drawing of the same symbol

## CMP-2001-04899-2
designator R?, comment 100kΩ
RES Thick Film, 100kΩ, 1%, 0.125W, 100ppm/°C, 0805; Resistance: 100kR; Power Rating: 125mW; Voltage Rating: 150V; Case/Package: 0805; Max Operating Temperature: 155°C; Case Code (Imperial): 0805; Lead Free: Lead Free; Weight: 0.000194oz; Number of Pins: 2; Package Quantity: 5000; Height: 0.45mm; Composition: Thick Film; Military Standard: Not; Tolerance: 1%; Case Code (Metric): 2012; Termination: SMD/SMT; Mount: Surface Mount; Radiation Hardening: No; Width: 1.25mm; Length: 2mm; Depth: 1.25mm; Packaging: Tape and Reel; Min Operating Temperature: -55°C; Contact Plating: Tin; Temperature Coefficient: 100ppm/°C; Voltage Rating (DC): 150V
footprint FP-CRCW0805-e3-MFG
footprint FP-CRCW0805-e3-IPC_C
footprint FP-CRCW0805-e3-IPC_B
footprint FP-CRCW0805-e3-IPC_A
pins: 1, 2

## CMP-2003-01944-1
designator R?, comment 20.0
Manufacturer: Vishay Dale; Part Number: CRCW120620R0FKEA
footprint RESC3216X60X45ML10T20 (Chip Resistor, 2-Leads, Body 3.20x1.60mm, IPC Low Density)
footprint RESC3216X60X45NL10T20 (Chip Resistor, 2-Leads, Body 3.20x1.60mm, IPC Medium Density)
footprint RESC3216X60X45LL10T20 (Chip Resistor, 2-Leads, Body 3.20x1.60mm, IPC High Density)
pins: 1, 2
1 alternate drawing of the same symbol

## CMP-2003-02161-2
designator R?, comment 3.9 k
NexarPartId: 42274481; Voltage Rating (DC): 200V; Max Power Dissipation: 250mW; Tolerance: 5%; Resistance: 3.9kΩ; Temperature Coefficient: 200ppm/°C; Termination: SMD/SMT; Width: 1.6002mm; Contact Plating: Tin; Military Standard: Not; Features: Automotive AEC-Q200; Depth: 1.6mm; Voltage Rating: 200V; Height: 600µm; Composition: Thick Film; Case/Package: 1206; Lead Free: Lead Free; RoHS: Compliant; Case Code (Metric): 3216; Radiation Hardening: No; Length: 3.2mm; Number of Terminations: 2; Max Operating Temperature: 155°C; Packaging: Cut Tape; Number of Pins: 2; REACH SVHC: Unknown; Weight: 10.007382mg; Power Rating: 250mW; Case Code (Imperial): 1206; Min Operating Temperature: -55°C
footprint Vishay_CRCW1206-e3_MFG (Res Thkflm D25/1206 2R15 Ohm 1% 200 ET5 E3 SMD)
footprint Vishay_CRCW1206-e3_IPC_A (Res Thkflm D25/1206 2R15 Ohm 1% 200 ET5 E3 SMD)
footprint Vishay_CRCW1206-e3_IPC_B (Res Thkflm D25/1206 2R15 Ohm 1% 200 ET5 E3 SMD)
footprint Vishay_CRCW1206-e3_IPC_C (Res Thkflm D25/1206 2R15 Ohm 1% 200 ET5 E3 SMD)
pins: 1, 2

## CMP-2003-02296-2
designator R?, comment 5.1 k
RES Thick Film, 5.1kΩ, 5%, 0.25W, 200ppm/°C, 1206; Resistance: 5.1kR; Voltage Rating: 200V; Power Rating: 250mW; Packaging: Tape and Reel; Min Operating Temperature: -55°C; Max Operating Temperature: 155°C; Package Quantity: 1; Lead Free: Lead Free; Working Voltage: 200V; Case Code (Metric): 3216; Case Code (Imperial): 1206; Composition: Thick Film; Temperature Coefficient: 200ppm/°C; Voltage Rating (DC): 200V; Features: Automotive AEC-Q200; Military Standard: Not; Width: 0.063inch; Weight: 0.000353oz; Height: 0.55mm; Max Power Dissipation: 250mW; Depth: 1.6mm; Termination: SMD/SMT; Number of Terminations: 2; Case/Package: 1206; Radiation Hardening: No; Tolerance: 5%; Length: 3.2mm; Contact Plating: Tin
footprint FP-CRCW1206-e3-IPC_A
footprint FP-CRCW1206-e3-IPC_C
footprint FP-CRCW1206-e3-IPC_B
footprint FP-CRCW1206-e3-MFG
pins: 1, 2

## CMP-2007-00089-2
designator C?, comment 0.47 uF
Ceramic Capacitor for Automotive 470nF  ±10% 25VDC X7R 0805 Paper T/R; Voltage Rating: 25V; Mount: Surface Mount; Max Operating Temperature: 125°C; Package Quantity: 1; Packaging: Tape and Reel; Height: 0.85mm; Dielectric: X7R; Case Code (Metric): 2012; Tolerance: 10%; Termination: SMD/SMT; Lead Free: Lead Free; Thickness: 0.037inch; Case Code (Imperial): 0805; Min Operating Temperature: -55°C; Length: 2mm; Capacitance: 470nF; Ratings: AEC-Q200; Radiation Hardening: No; Depth: 1.25mm; Voltage Rating (DC): 25V; Case/Package: 0805; Width: 0.049inch
footprint FP-GCM219-0_15-MFG
footprint FP-GCM219-0_15-IPC_A
footprint FP-GCM219-0_15-IPC_C
footprint FP-GCM219-0_15-IPC_B
pins: 1, 2

## CMP-2007-00334-2
designator C?, comment 22 nF
CAP CER 0.022UF 16V X7R 0805; Manufacturer Part Number: C0805C223K4RACTU; Manufacturer: KEMET; Capacitance: 22,000 pF; Value: 22,000 pF; Temperature Coefficient: 30ppm/°C; Tolerance: 0.1; Material: Ceramic; Octopart: https://octopart.com/c0805c223k4ractu-kemet-16264534; ComponentLink2URL: https://content.kemet.com/datasheets/KEM_C1003_C0G_SMD.pdf; Digikey Description: CAP CER 0.022UF 16V X7R 0805; Mouser Description: Cap Ceramic 0.022uF 16V X7R 10% SMD 0805 125°C Paper T/R; Temperature Characteristic: X7R; Device Class L3: Ceramic Capacitors; ComponentLink2Description: Datasheet; Temperature Range High: +125°C; Temperature Range Low: -55°C; Category: Cap; Package: C0805C-DN; Automotive: No; Height: 0.88mm; Lead Free: Yes; Voltage Rating: 16 V; Temperature: -55°C to +125°C; Ipc Land Pattern Name: CAPC200125X78; RoHS: TRUE; Device Class L2: Capacitors; Device Class L1: Passive Components
footprint FP-C0805C-DN-MFG
footprint FP-C0805C-DN-IPC_C
footprint FP-C0805C-DN-IPC_B
footprint FP-C0805C-DN-IPC_A
pins: 1, 2

## CMP-2007-00512-2
designator C?, comment 100 pF
CAP CER 100PF 100V C0G/NP0 0805; Manufacturer Part Number: C0805C101J1GACAUTO; Manufacturer: KEMET; Tolerance: 0.05; Temperature Coefficient: 30ppm/°C; Temperature Characteristic: C0G; Material: Ceramic; Digikey Description: CAP CER 100PF 100V C0G/NP0 0805; Automotive: No; Value: 100 pF; Temperature: -55°C to +125°C; Ipc Land Pattern Name: CAPC200125X78; Device Class L1: Passive Components; Package: C0805C-DN; Category: Cap; Temperature Range Low: -55°C; Temperature Range High: +125°C; ComponentLink2URL: https://content.kemet.com/datasheets/KEM_C1003_C0G_SMD.pdf; Octopart: https://octopart.com/c0805c101j1gacauto-kemet-22884341; ComponentLink2Description: Datasheet; RoHS: TRUE; Capacitance: 100 pF; Lead Free: Yes; Height: 0.88mm; Voltage Rating: 100 V; Device Class L2: Capacitors; Device Class L3: Ceramic Capacitors
footprint FP-C0805C-DN-MFG
footprint FP-C0805C-DN-IPC_C
footprint FP-C0805C-DN-IPC_B
footprint FP-C0805C-DN-IPC_A
pins: 1, 2

## CMP-2007-01227-1
designator C?, comment 0.1uF
Manufacturer: Kemet; Part Number: C0805S104K5RACTU
footprint CAPC2013X145X50NL20T25 (Chip Capacitor, 2-Leads, Body 2.00x1.25mm, IPC Medium Density)
footprint CAPC2013X145X50ML20T25 (Chip Capacitor, 2-Leads, Body 2.00x1.25mm, IPC Low Density)
footprint CAPC2013X145X50LL20T25 (Chip Capacitor, 2-Leads, Body 2.00x1.25mm, IPC High Density)
pins: 1, 2
1 alternate drawing of the same symbol

## CMP-2007-01878-1
designator C?, comment 100nF
Manufacturer: Vitramon; Part Number: VJ0805Y104MXXMT
footprint CAPC2013X145X48NL20T23 (Chip Capacitor, 2-Leads, Body 2.00x1.25mm, IPC Medium Density)
footprint CAPC2013X145X48LL20T23 (Chip Capacitor, 2-Leads, Body 2.00x1.25mm, IPC High Density)
footprint CAPC2013X145X48ML20T23 (Chip Capacitor, 2-Leads, Body 2.00x1.25mm, IPC Low Density)
pins: 1, 2
1 alternate drawing of the same symbol

## CMP-02407-001361-1
designator R?, comment 1M
RES 1.05K OHM 0.5% 1/5W 0805; Resistance: 1MR; Tolerance: 0.1%; Case/Package: 0805; Width: 1.25mm; Length: 2mm; Height: 450um; Lead Free: Lead Free
footprint FP-MCU0805-IPC_B
footprint FP-MCU0805-IPC_C
footprint FP-MCU0805-MFG
footprint FP-MCU0805-IPC_A
pins: 1, 2

## CMP-02407-002320-1
designator R?, comment 150
RES Thick Film, 150Ω, 5%, 1W, 200ppm/°C, 2512; Voltage Rating: 500V; Resistance: 150R; Number of Pins: 2; Max Power Dissipation: 1W; Weight: 0.001429oz; Tolerance: 5%; Mount: Surface Mount; Features: Automotive AEC-Q200; Case Code (Imperial): 2512; Voltage Rating (DC): 500V; Packaging: Tape and Reel; Temperature Coefficient: 200ppm/°C; Min Operating Temperature: -55°C; Depth: 3.15mm; Contact Plating: Tin; Composition: Thick Film; Length: 6.3mm; Package Quantity: 2000; Termination: SMD/SMT; Width: 0.124inch; Max Operating Temperature: 155°C; Radiation Hardening: No; Lead Free: Lead Free; Number of Terminations: 2; Height: 0.028inch; Case Code (Metric): 6432; Case/Package: 2512; Military Standard: Not; Power Rating: 1W
footprint FP-CRCW2512-e3-IPC_B
footprint FP-CRCW2512-e3-MFG
footprint FP-CRCW2512-e3-IPC_C
footprint FP-CRCW2512-e3-IPC_A
pins: 1, 2

## CMP-02407-010572-1
designator R?, comment 22k
RES 1.05K OHM 0.5% 1/5W 0805; Temperature Coefficient: 50ppm/°C; Resistance: 22kR; Tolerance: 1%; Length: 2mm; Lead Free: Lead Free; Packaging: Tape and Reel; Width: 1.25mm; Military Standard: Not; Composition: Thin Film; Case/Package: 0805; Max Operating Temperature: 125°C; Contact Plating: Tin; Min Operating Temperature: -55°C; Depth: 1.25mm; Radiation Hardening: No
footprint FP-MCU0805-IPC_C
footprint FP-MCU0805-IPC_A
footprint FP-MCU0805-IPC_B
footprint FP-MCU0805-MFG
pins: 1, 2

## CMP-02424-000558-1
designator L?, comment 3.3 uH
Commercial Inductors, High Saturation Series 3.3uH 15A 9.2mΩ 20%; Core Material: Ferrite; Self Resonant Frequency: 5MHz; Shielding: Shielded; Saturation Current: 32A; DC Resistance (DCR): 9.2mR; Test Frequency: 100kHz; Number of Pins: 5050; Max Operating Temperature: 125°C; Height: 5mm; Tolerance: 20%; Max DC Current: 15A; Inductance Tolerance: 20%; Radiation Hardening: No; Inductance: 3.3uH; Lead Free: Lead Free; Length: 13.2mm; RMS Current (Irms): 15A; Military Standard: Not; Case/Package: 5050; Current Rating: 15A; Depth: 12.9mm; Height - Seated (Max): 0.197inch; Termination: SMD/SMT; Mount: Surface Mount; Width: 12.9mm; Packaging: Tape and Reel; Package Quantity: 250; Min Operating Temperature: -55°C
footprint FP-IHLP-5050EZ-FP_3_226x4-MFG
pins: 1, 2

## CMP-03020-014259-1
designator C?, comment 0.8pF
CAP CER 0.8PF 250V C0G/NP0 0805; Manufacturer: KEMET; Manufacturer Part Number: CBR08C808BAGAC; Temperature Characteristic: C0G; Material: Ceramic; Tolerance: 0.1 pF; Temperature Coefficient: 30ppm/°C; Digikey Description: CAP CER 0.8PF 250V C0G/NP0 0805; Height: 0.95mm; Mouser Description: Multilayer Ceramic Capacitors MLCC - SMD/SMT 250volts .8pF C0G 0805 .1pF Tol RF; ComponentLink2Description: Datasheet; Device Class L2: Capacitors; Package: CBR08C; Octopart: https://octopart.com/cbr08c808bagac-kemet-23841679; Voltage Rating: 250 V; Device Class L1: Passive Components; Automotive: No; Temperature: -55°C to +125°C; RoHS: TRUE; Category: Cap; Ipc Land Pattern Name: CAPC200125X85; Device Class L3: Ceramic Capacitors; Value: 0.8 pF; ComponentLink2URL: https://content.kemet.com/datasheets/KEM_C1030_CBR_SMD.pdf; Temperature Range Low: -55°C; Capacitance: 0.8 pF; Lead Free: Yes; Temperature Range High: +125°C
footprint FP-CBR08C-MFG
footprint FP-CBR08C-IPC_C
footprint FP-CBR08C-IPC_B
footprint FP-CBR08C-IPC_A
pins: 1, 2

## CMP-03020-034663-1
designator C?, comment 10uF
CAP CER 10UF 25V X5R 0805; Dissipation Factor: 10%; Dielectric Material: Ceramic; RoHS Compliant: Yes; Voltage Rating: 25V; Case Code (Metric): 2012; Case Code (Imperial): 0805; Capacitance: 10uF; Lead Free: Lead Free; Dielectric: X5R; Depth: 1.25mm; Case/Package: 0805; Height: 1.25mm; Length: 0.079inch; Termination: Solder; Thickness: 0.057inch; Tolerance: 10%; Min Operating Temperature: -55°C; Width: 0.049inch; Mount: Surface Mount; Voltage Rating (DC): 25V; REACH SVHC: No SVHC; Voltage: 25V; Packaging: Cut Tape; Max Operating Temperature: 85°C
footprint FP-C0805C106K3PACTU-MFG
footprint FP-C0805C106K3PACTU-IPC_C
footprint FP-C0805C106K3PACTU-IPC_B
footprint FP-C0805C106K3PACTU-IPC_A
pins: 1, 2

## CMP-03211-002267-1
designator R?, comment 470
CRGCQ0805 470Ω 0.125W ±100ppm/°C 5% 150V; Manufacturer: TE Connectivity; Manufacturer Part Number: CRGCQ0805J470R; Tolerance: 0.05; Automotive Grade: Grade 610; Temperature Range Low: -55°C; Power Rating: 0.125W; Temperature: -55°C to +155°C; Height: 0.65mm; Temperature Coefficient: ±100ppm/°C; Resistance: 470Ω; Composition: Thick Film; Ambient Temperature Range High: +70°C; Category: Res; Value: 470Ω; Automotive: Yes; Series: CRGCQ; Package: CRGCQ0805; Device Class L3: Chip SMD Resistors; ComponentLink2URL: https://www.te.com/commerce/DocumentDelivery/DDEController?Action=showdoc&DocId=Data+Sheet%7F1773204-3%7F1%7Fpdf%7FEnglish%7FENG_DS_1773204-3_1.pdf%7F4-2176341-619; Device Class L2: Resistors; Octopart: https://octopart.com/crgcq0805j470r-te+connectivity-91018229; Voltage Rating: 150V; Ipc Land Pattern Name: RESC200125X55; Temperature Range High: +155°C; Device Class L1: Passive Components; ComponentLink2Description: Datasheet; RoHS: TRUE; Lead Free: Yes
footprint FP-CRGCQ0805-IPC_C
footprint FP-CRGCQ0805-IPC_B
footprint FP-CRGCQ0805-IPC_A
pins: 1, 2

## CMP-03412-008596-1
designator R?, comment 10
RT0805 10Ω 0.125W 10 ppm/°C 0.25%; Manufacturer: Yageo; Manufacturer Part Number: RT0805BRB1310RL; Voltage Rating: 150V; Tolerance: 0.0025; Composition: Thin Film; Ipc Land Pattern Name: RESC200125X50; Height: 0.6mm; Temperature Range Low: -55°C; RoHS: TRUE; Value: 10Ω; Device Class L2: Resistors; Resistance: 10Ω; Automotive: No; ComponentLink2Description: Datasheet; Footprint Url: http://www.yageo.com/exep/pages/download/literatures/PYu-R_Mount_10.pdf; Temperature: -55°C to +155°C; Package: RT0805; Series: RT; Device Class L1: Passive Components; Octopart: https://octopart.com/rt0805brb1310rl-yageo-73279041; Device Class L3: Chip SMD Resistors; Power Rating: 0.125W; Lead Free: Yes; Temperature Coefficient: 10 ppm/°C; ComponentLink2URL: http://www.yageo.com/documents/recent/PYu-RT_1-to-0.01_RoHS_L_9.pdf; Category: Res; Temperature Range High: +155°C
footprint FP-RT0805-MFG
footprint FP-RT0805-IPC_C
footprint FP-RT0805-IPC_B
footprint FP-RT0805-IPC_A
pins: 1, 2

## CMP-03412-037656-1
designator R?, comment 820Ω
RES SMD 820 OHM 1% 1/8W 0805; Manufacturer: Yageo; Manufacturer Part Number: AC0805FR-07820RL; Voltage Rating: 150V; Tolerance: 0.01; Automotive Grade: Grade 0; Category: Res; Temperature Range Low: -55°C; Lead Free: Yes; Composition: Thick Film; Device Class L1: Passive Components; ComponentLink2URL: http://www.yageo.com/documents/recent/PYu-AC_51_RoHS_L_6.pdf; Ipc Land Pattern Name: RESC200125X50; Series: AC; Package: AC0805; Device Class L2: Resistors; Value: 820Ω; Octopart: https://octopart.com/ac0805fr-07820rl-yageo-26041182; RoHS: TRUE; Temperature Range High: +155°C; Automotive: Yes; Mouser Description: Thick Film Resistors - SMD 1/8W 820ohm 1% AEC-Q200; ComponentLink2Description: Datasheet; Digikey Description: RES SMD 820 OHM 1% 1/8W 0805; Power Rating: 1/8W; Height: 0.6mm; Footprint Url: http://www.yageo.com/exep/pages/download/literatures/PYu-R_Mount_10.pdf; Temperature: -55°C to +155°C; Resistance: 820Ω; Device Class L3: Chip SMD Resistors
footprint FP-AC0805-MFG
footprint FP-AC0805-IPC_C
footprint FP-AC0805-IPC_B
footprint FP-AC0805-IPC_A
pins: 1, 2

## CMP-03412-049031-1
designator R?, comment 10k
Thin Film Chip Resistors Automotive Grade 10kΩ 0.5% 50ppm/°C 0805; Max Power Dissipation: 125mW; Resistance: 10kR; Ratings: AEC-Q200; Length: 0.079inch; Temperature Coefficient: 50ppm/°C; Height: 0.024inch; Min Operating Temperature: -55°C; Case/Package: 0805; Tolerance: 0.5%; RoHS Compliant: Yes; Features: Moisture Resistant; Number of Terminations: 2; Max Operating Temperature: 155°C; Series: AT; Packaging: Tape and Reel; Width: 0.049inch; Resistor Type: Thin Film
footprint FP-AT0805-MFG
footprint FP-AT0805-IPC_C
footprint FP-AT0805-IPC_B
footprint FP-AT0805-IPC_A
pins: 1, 2

## CMP-04015-026884-1
designator R?, comment 442Ω
442Ω ±0.1% 0.125W, 1/8W Chip Resistor 0805 (2012 Metric) Moisture Resistant Thin Film
footprint FP-RN73R2A-IPC_C
footprint FP-RN73R2A-MFG
footprint FP-RN73R2A-IPC_B
footprint FP-RN73R2A-IPC_A
pins: 1, 2

## CMP-04776-000309-1
designator J?, comment 22-27-2061
CONN HEADER VERT 6POS 2.54MM; Number of Contacts: 6; Current Rating: 4A; Voltage Rating (AC): 250V; Contact Resistance: 10mR; Hole Diameter: 1.02mm; Connector Type: Male Pin; Gender: Male; Mount: Through Hole; REACH SVHC: No SVHC; Number of Rows: 1; Contact Plating: Tin; Series: KK; Depth: 5.8mm; Flammability Rating: UL94 V-0; Contact Type: Male Pin; Lead Pitch: 2.54mm; Min Operating Temperature: 0°C; Pitch: 2.54mm; Radiation Hardening: No; Color: Natural; Length: 15.24mm; Termination: Solder; Orientation: Straight; Contact Material: Brass; Max Voltage Rating (AC): 250V; Housing Material: Nylon; Max Operating Temperature: 75°C; Working Voltage: 250V; Max Current Rating: 4A; Fastening Type: Friction; Voltage Rating: 250V; Housing Color: White; Packaging: Bulk; Material: Nylon; Contact Mating Length: 0.295inch; Package Quantity: 10000; Number of Positions: 6
footprint FP-22-27-2061-MFG
pins: 1, 2, 3, 4, 5, 6

## CMP-04911-000083-1
designator U?, comment BQ76942PFBR
3-SERIES TO 10-SERIES MULTICELL
footprint FP-PFB0048A-IPC_C
footprint FP-PFB0048A-IPC_B
footprint FP-PFB0048A-MFG
footprint FP-PFB0048A-IPC_A
pins: 1 NC, 2 VC9 (in), 3 NC, 4 VC8 (in), 5 NC, 6 VC7 (in), 7 NC, 8 VC6 (in), 9 NC, 10 VC5 (in), 11 NC, 12 VC4 (in), 13 VC3 (in), 14 VC2 (in), 15 VC1 (in), 16 VC0 (in), 17 VSS (power), 18 SRP, 19 NC, 20 SRN, 21 TS1, 22 TS2, 23 TS3, 24 REG18 (power), 25 ALERT, 26 SCL (in), 27 SDA (io), 28 HDQ, 29 CFETOFF, 30 DFETOFF, 31 DCHG, 32 DDSG, 33 RST SHUT, 34 REG2, 35 REG1, 36 REGIN, 37 BREG, 38 FUSE, 39 PDSG, 40 PCHG, 41 LD, 42 PACK, 43 DSG, 44 NC, 45 CHG, 46 CP1, 47 BAT (power), 48 VC10 (in)

## CMP-04962-000007-1
designator Q?, comment CSD19532Q5B
MOSFET N-CH 100V 100A 8SON; Manufacturer: Texas Instruments; Depletion Mode: False; Number Of Channels: 1; Gate To Source Voltage: 20V; Reverse Recovery Time: 80ns; Input Capacitace At Vds: 3700pF @ 50V; Max Forward Diode Voltage: 1V; Turn Off Delay Time: 22ns; Drain To Source Resistance: 4.6mΩ; Threshold Vgs Max: 3.2V; Max Junction Temp: +150°C; Turn On Delay Time: 7ns; Pulse Drain Current: 400A; Rthja Max: 50°C/W; Typ Forward Diode Voltage: 0.8V; Reverse Recovery Charge: 249nC; Threshold Vgs Min: 2.2V; Gate Charge At Vgs: 48nC @ 10V; Power Dissipation: 3.1W; Transconductance: 84S; Temperature Range Low: -55°C; Automotive: No; RoHS: TRUE; Temperature: -55°C to +150°C; Device Class L3: MOSFETs; Continuous Drain Current: 100A; Number Of N Channels: 1; Height: 1.05mm; Mouser Description: MOSFET 100V 4.0 mOhm N-Ch NexFET Power MOSFET; Drain To Source Voltage: 100V; Temperature Range High: +150°C; Manufacturer Part Number: CSD19532Q5B; Octopart: https://octopart.com/csd19532q5b-texas+instruments-32890191; ComponentLink2URL: http://www.ti.com/lit/ds/symlink/csd19532q5b.pdf; Lead Free: Yes; Drain To Source Breakdown Voltage: 100V; Device Class L1: Discrete Semiconductors; Device Class L2: Transistors; Package: DNK0008A; Digikey Description: MOSFET N-CH 100V 100A 8SON; Category: Trans; ComponentLink2Description: Datasheet
footprint FP-DNK0008A-MFG
pins: 1 S, 2 S, 3 S, 4 G, 5-6-7-8 D